# Altium integrated library Potentiometer.IntLib: 1 symbol
Pins are listed as number, name and electrical type; pins without a type are passive.

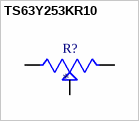
[diagram p0: symbol TS63Y253KR10]

## TS63Y253KR10
designator R?
SFERNICE POTENTIOMETERS & TRIMME; MP: TS63Y253KR10; MF: Vishay Sfernice; Value: *; SnapEDA_Link: https://www.snapeda.com/parts/TS63Y253KR10/Vishay/view-part/?ref=snap; Availability: In Stock; Package: SMD Vishay Sfernice; Price: None; Check_prices: https://www.snapeda.com/parts/TS63Y253KR10/Vishay/view-part/?ref=eda; Purchase-URL: https://pricing.snapeda.com/search/part/TS63Y253KR10/?ref=eda
footprint TRIM_TS63Y253KR10
pins: 1 A, 2 B, 3 C